# Altium integrated library WD Peripheral CRC Generator Checker.IntLib: 2 symbols
Pins are listed as number, name and electrical type; pins without a type are passive.

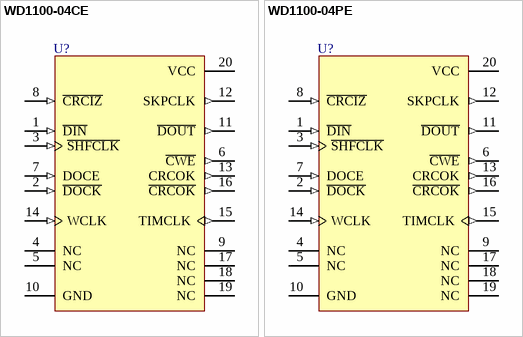
[diagram p0: symbols WD1100-04CE to WD1100-04PE]

## WD1100-04CE
designator U?
CRC Generator/Checker; PackageDocument: 1984; Published: 8-Jun-2000; LatestRevisionDate: 4-Mar-2005; LatestRevisionNote: Stylized 3D Model Added.; DatasheetDocument: 1984; PackageReference: CE20; Publisher: Altium Limited; ComponentLink1Description: Manufacturer Link; ComponentLink1URL: http://www.wdc.com/
footprint CE20 (DIP; 20 Leads; Row Spacing 7.62 mm; Pitch 2.54 mm)
3D model CE20 (DIP; 20 Leads; Row Spacing 7.62 mm; Pitch 2.54 mm)
pins: 1 ~{DIN} (in), 2 ~{DOCK} (in), 3 ~{SHFCLK} (in), 4 NC, 5 NC, 6 ~{CWE} (out), 7 DOCE (in), 8 ~{CRCIZ} (in), 9 NC, 10 GND (power), 11 ~{DOUT} (out), 12 SKPCLK (out), 13 CRCOK (out), 14 WCLK (in), 15 TIMCLK (out), 16 ~{CRCOK} (out), 17 NC, 18 NC, 19 NC, 20 VCC (power)

## WD1100-04PE
designator U?
CRC Generator/Checker; PackageDocument: 1984; Published: 8-Jun-2000; LatestRevisionDate: 4-Mar-2005; LatestRevisionNote: Stylized 3D Model Added.; DatasheetDocument: 1984; PackageReference: PE20; Publisher: Altium Limited; ComponentLink1Description: Manufacturer Link; ComponentLink1URL: http://www.wdc.com/; Code_JEDEC: MS-001-AD
footprint PE20 (DIP; 20 Leads; Row Spacing 7.62 mm; Pitch 2.54 mm)
3D model PE20 (DIP; 20 Leads; Row Spacing 7.62 mm; Pitch 2.54 mm)
pins: 1 ~{DIN} (in), 2 ~{DOCK} (in), 3 ~{SHFCLK} (in), 4 NC, 5 NC, 6 ~{CWE} (out), 7 DOCE (in), 8 ~{CRCIZ} (in), 9 NC, 10 GND (power), 11 ~{DOUT} (out), 12 SKPCLK (out), 13 CRCOK (out), 14 WCLK (in), 15 TIMCLK (out), 16 ~{CRCOK} (out), 17 NC, 18 NC, 19 NC, 20 VCC (power)